# Altium schematic symbol library HLK-5M12.SchLib: 1 symbol
Pins are listed as number, name and electrical type; pins without a type are passive.

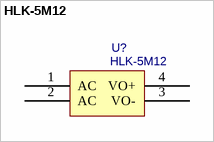
[diagram p0: symbol HLK-5M12]

## HLK-5M12
designator U?
Manufacturer: HI-LINK(海凌科); Contributor: LCSC; Supplier: LCSC; Supplier Part: C209908; Manufacturer Part: HLK-5M12; JLCPCB Part Class: Extended Part; link: https://lcsc.com/eda_search?q=C209908&%26type=1&ref=editor; spicePre: U; spiceSymbolName: HLK-5M12
footprint PWRM-TH_HLK-5M12
pins: 1 AC, 2 AC, 3 VO-, 4 VO+